# Altium integrated library Universal_Control_Measure_Board.IntLib: 99 symbols
Pins are listed as number, name and electrical type; pins without a type are passive.

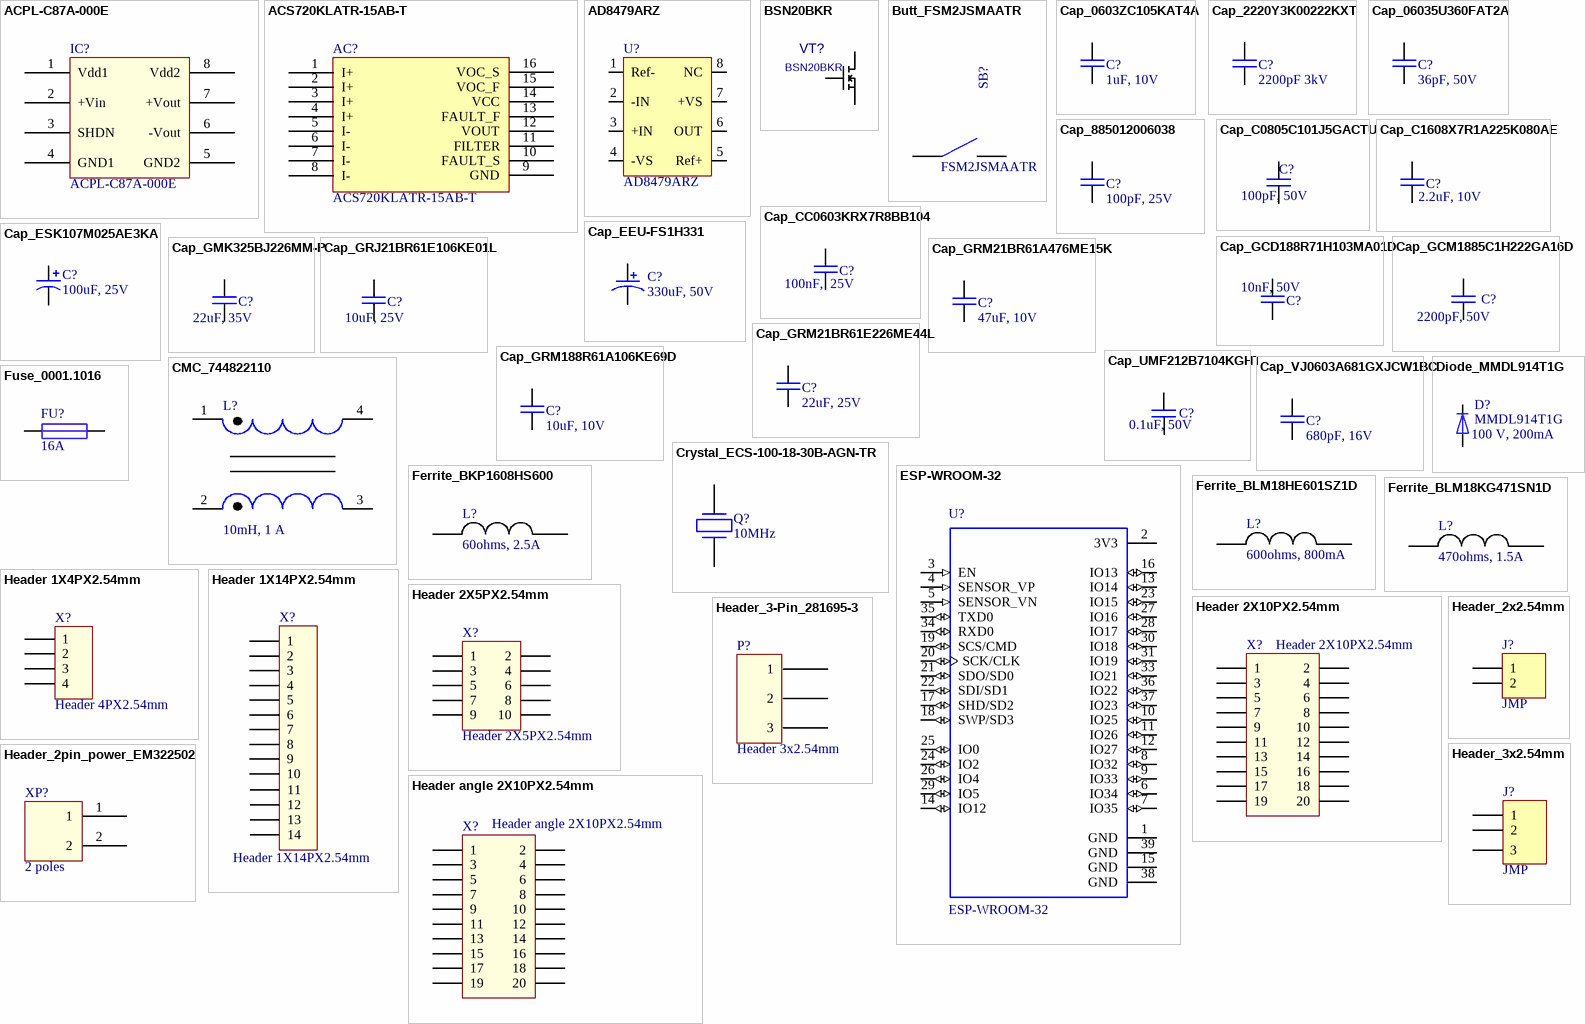
[diagram p0: symbols ACPL-C87A-000E to Header_3x2.54mm]

## ACPL-C87A-000E
designator IC?
3V-5.5V, Optically Isolated Amplifiers; Manufacturer: Broadcom / Avago; Order code: 630-ACPL-C87A-500E; Supplier: Mouser; Type: Optically Isolated Amplifiers; Value: 3V-5.5V; Package: SSO-8; Price: 4,64; PartNumber: ACPL-C87A-000E
footprint SOIC127P1150X350-8N (SOIC, 8-Leads, Body 6.3x7.0mm (max), Pitch 1.27mm, IPC Medium Density)
pins: 1 Vdd1, 2 +Vin, 3 SHDN, 4 GND1, 5 GND2, 6 -Vout, 7 +Vout, 8 Vdd2

## ACS720KLATR-15AB-T
designator AC?
15A, Current Sensor; Manufacturer: ALLEGRO MICROSYSTEMS; Order code: 3015173; Value: 15A; Supplier: Farnell; Type: Current Sensor; Price: 5,24; PartNumber: ACS720KLATR-15AB-T; Package: SOIC16
footprint SOIC_W
pins: 1 I+, 2 I+, 3 I+, 4 I+, 5 I-, 6 I-, 7 I-, 8 I-, 9 GND, 10 FAULT_S, 11 FILTER, 12 VOUT, 13 FAULT_F, 14 VCC, 15 VOC_F, 16 VOC_S

## AD8479ARZ
designator U?
80dB, Differential Amplifiers; Manufacturer: Analog Devices; Order code: 584-AD8479ARZ; Package: SOIC-8; PartNumber: AD8479ARZ; Price: 5,94; Supplier: Mouser; Type: Differential Amplifiers; Value: 80 dB
footprint SOIC127P600X175-8N
pins: 1 Ref-, 2 -IN, 3 +IN, 4 -VS, 5 Ref+, 6 OUT, 7 +VS, 8 NC

## BSN20BKR
designator VT?
60V, 265 mA, MOSFET; Manufacturer: Nexperia; Order code: 771-BSN20BKR; Value: 60V, 265 mA; datasheet: https://www1.elfa.se/data1/wwwroot/assets/datasheets/cd610530_e.pdf; Price: 0,297; Supplier: Mouser; Package: SOT-23; Publisher: *; Type: MOSFET; PartNumber: BSN20BKR
footprint SOT23
pins: 1 G, 2 S, 3 D

## Butt_FSM2JSMAATR
designator SB?, comment FSM2JSMAATR
12VDC, 50mA, Tactile Switch PUSH BUTTON; Manufacturer: TE Connectivity / Alcoswitch; Order code: 506-FSM2JSMAATR; Value: 12VDC, 50mA; Package: smd; Price: 0,25; Supplier: Mouser; Type: Tactile Switch PUSH BUTTON; PartNumber: FSM2JSMAATR
footprint FSM2JSMA (SMD Push Button)
pins: 1, 2

## Cap_0603ZC105KAT4A
designator C?, comment value 1uF, 10V  (hidden comment: 1uF, 10V,  10%)
1uF, 10V, X7R, 0603, 10%, MLCC; Manufacturer: AVX; PartNumber: 0603ZC105KAT4A; Order code: 581-0603ZC105KAT4A; Type: MLCC; Package: smd 0603; Price: 0,09; Supplier: Mouser
footprint smd_0603
pins: 1, 2

## Cap_2220Y3K00222KXT
designator C?, comment value 2200pF 3kV  (hidden comment: 2200pF, 3kV)
2200pF, 3kV, MLCC; Manufacturer: Knowles Syfer; PartNumber: 2220Y3K00222KXT; Order code: 843-2220Y3K00222KX; Supplier: Mouser; Package: smd 2220; Price: 3,74; Type: MLCC
footprint SMD_2220
pins: 1, 2

## Cap_06035U360FAT2A
designator C?, comment value 36pF, 50V  (hidden comment: 36pF, 50V,  1%)
36pF, 50V, 1%, 0603, Ultra Low ESR, MLCC; Manufacturer: AVX; PartNumber: 06035U360FAT2A; Order code: 581-06035U360FAT2A; Type: MLCC; Package: smd 0603; Price: 0,36; Supplier: Mouser
footprint smd_0603
pins: 1, 2

## Cap_885012006038
designator C?, comment value 100pF, 25V  (hidden comment: 100pF, 25V,  5%)
100pF, 25V,  5%, C0G, 0603, MLCC; Manufacturer: Wurth Electronics; PartNumber: 885012006038; Order code: 710-885012006038; Type: MLCC; Package: smd 0603; Price: 0,09; Supplier: Mouser
footprint smd_0603
pins: 1, 2

## Cap_C0805C101J5GACTU
designator C?, comment 100pF, 50V
100pF, 50V, MLCC; Manufacturer: KEMET; PartNumber: C0805C101J5GACTU; Order code: 80-C0805C101J5G; Supplier: Mouser; Price: 0,09; Type: MLCC; Package: smd 0805; value: 100pF, 50V
footprint SMD_0805
pins: 1, 2

## Cap_C1608X7R1A225K080AE
designator C?, comment value 2.2uF, 10V  (hidden comment: 2.2uF, 10V, 10%)
2.2uF, 10V, X7R, 10%, 0603, MLCC; Manufacturer: TDK; PartNumber: C1608X7R1A225K080AE; Order code: 810-C1608X7R1A225KAE; Type: MLCC; Package: smd 0603; Price: 0,23; Supplier: Mouser
footprint smd_0603
pins: 1, 2

## Cap_CC0603KRX7R8BB104
designator C?, comment value 100nF,  25V  (hidden comment: 100nF,  25V, 10%)
100nF, 25V, X7R, 10%, 0603, MLCC; Manufacturer: Yageo; PartNumber: CC0603KRX7R8BB104; Order code: 603-CC603KRX7R8BB104; Type: MLCC; Package: smd 0603; Price: 0,09; Supplier: Mouser
footprint smd_0603
pins: 1, 2

## Cap_EEU-FS1H331
designator C?, comment value 330uF, 50V  (hidden comment: 330uF, 50V, 20%)
330uF, 50V,  20%, D10, Aluminium Electrolytic Capacitors; Manufacturer: Panasonic; PartNumber: EEU-FS1H331; Order code: 667-EEU-FS1H331; Type: Aluminium Electrolytic Capacitors; Package: Radial D10 Thor; Price: 0,72; Supplier: Mouser
footprint D10Capacitor_Electrolyte
pins: 1, 2

## Cap_ESK107M025AE3KA
designator C?, comment 100uF, 25V
100uF, 25V, Aluminium Electrolytic Capacitors; Manufacturer: KEMET; PartNumber: ESK107M025AE3KA; Order code: 80-ESK107M025AE3KA; Type: Aluminium Electrolytic Capacitors; Price: 0,198; Package: Radial 6.3mm; Supplier: Mouser; Value: 100uF, 25V
footprint CapElectrolitic6.3x11
pins: 1, 2

## Cap_GCD188R71H103MA01D
designator C?, comment value 10nF, 50V  (hidden comment: 10nF, 50V,  20%)
10nF, 50V, X7R, 20%, 0603, MLCC; Manufacturer: Murata Electronics; PartNumber: GCD188R71H103MA01D; Order code: 81-GCD188R71H103MA1D; Type: MLCC; Package: smd 0603; Price: 0,09; Supplier: Mouser
footprint smd_0603
pins: 1, 2

## Cap_GCM1885C1H222GA16D
designator C?, comment value 2200pF, 50V  (hidden comment: 2200pF, 50V,  2%)
2200pF, 50V, C0G, 2%, 0603, MLCC; Manufacturer: Murata Electronics; PartNumber: GCM1885C1H222GA16D; Order code: 81-GCM1885C1H222GA6D; Type: MLCC; Package: smd 0603; Price: 0,17; Supplier: Mouser
footprint smd_0603
pins: 1, 2

## Cap_GMK325BJ226MM-P
designator C?, comment 22uF, 35V
22uF, 35V, MLCC; Manufacturer: Taiyo Yuden; PartNumber: GMK325BJ226MM-P; Order code: 963-GMK325BJ226MM-P; Supplier: Mouser; Price: 0,621; Type: MLCC; Package: smd 1210; value: 22uF, 35V
footprint smd 1210
pins: 1, 2

## Cap_GRJ21BR61E106KE01L
designator C?, comment value 10uF, 25V  (hidden comment: 10uF, 25V, 10%)
10uF,  25V, X5R, 10%, 0805, MLCC; Manufacturer: Murata; PartNumber: GRJ21BR61E106KE01L; Order code: 81-GRJ21BR61E106KE1L; Type: MLCC; Package: smd 0805; Price: 0,27; Supplier: Mouser
footprint SMD_0805
pins: 1, 2

## Cap_GRM21BR61A476ME15K
designator C?, comment value 47uF, 10V  (hidden comment: 10V,  20%)
47uF, X5R, 10V, 20%, 0805, MLCC; Manufacturer: Murata Electronics; PartNumber: GRM21BR61A476ME5K; Order code: 81-GRM21BR61A476ME5K; Type: MLCC; Package: smd 0805; Price: 0,62; Supplier: Mouser
footprint SMD_0805
pins: 1, 2

## Cap_GRM21BR61E226ME44L
designator C?, comment value 22uF, 25V  (hidden comment: 25V, 10%)
22uF, 25V, X5R, 20%, 0805, MLCC; Manufacturer: Murata Electronics; PartNumber: GRM21BR61E226ME4L; Order code: 81-GRM21BR61E226ME4L; Type: MLCC; Package: smd 0805; Price: 0,43; Supplier: Mouser
footprint SMD_0805
pins: 1, 2

## Cap_GRM188R61A106KE69D
designator C?, comment value 10uF, 10V  (hidden comment: 10uF, 10V,  10%)
10uF, 10V, X5R, 10%, 0603, MLCC; Manufacturer: Murata Electronics; PartNumber: GRM188R61A106KE69D; Order code: 81-GRM188R61A106KE9D; Type: MLCC; Package: smd 0603; Price: 0,23; Supplier: Mouser
footprint smd_0603
pins: 1, 2

## Cap_UMF212B7104KGHT
designator C?, comment 0.1uF, 50V
0.1uF, 50V, MLCC; Manufacturer: Taiyo Yuden; PartNumber: UMF212B7104KGHT; Order code: 963-UMF212B7104KGHT; Supplier: Mouser; Price: 0,198; Type: MLCC; Package: smd 0805; value: 0.1uF, 50V
footprint C_0805
pins: 1, 2

## Cap_VJ0603A681GXJCW1BC
designator C?, comment value 680pF, 16V  (hidden comment: 680pF, 16V,  2%)
680pF, 16V, C0G, 2%, 0603, MLCC; Manufacturer: Vishay / Vitramon; PartNumber: VJ0603A681GXJCW1BC; Order code: 77-VJ0603A681GXJCBC; Type: MLCC; Package: smd 0603; Price: 0,09; Supplier: Mouser
footprint smd_0603
pins: 1, 2

## CMC_744822110
designator L?, comment 10mH, 1 A
10mH, 1 A, Common Mode Chokes/Filters; Manufacturer: Wurth Elektronik; PartNumber: 744822110; Order code: 710-744822110; Type: Common Mode Chokes / Filters; Supplier: Mouser; Package: Tray, Trough hole; Price: 4,54; Value: 10mH, 1 A
footprint Common_mode
pins: 1, 2, 3, 4

## Crystal_ECS-100-18-30B-AGN-TR
designator Q?, comment value 10MHz  (hidden comment: 10MHz, 25ppm)
10MHz, 25ppm, 18pF, Crystals; Manufacturer: ECS; PartNumber: ECS-100-18-30B-AGN-TR; Order code: 520-100-18-30B-AGNT; Type: Crystals; Price: 0,493; Package: smd 5mmx3.2mm; Supplier: Mouser
footprint SMD CRYSTAL ECX-53B (SMD 5x3.2mm)
pins: 1, 2 hidden to GNDOSC, 3, 4 hidden to GNDOSC

## Diode_MMDL914T1G
designator D?, comment MMDL914T1G  value 100 V, 200mA
100 V, 200mA, Diodes; Manufacturer: ON Semiconductor; Order code: 863-MMDL914T1G; Type: Diodes; Supplier: Mouser; Package: SOD-323; Price: 0,099; PartNumber: MMDL914T1G
footprint SOD323F
pins: 1, 2

## ESP-WROOM-32
designator U?
2.4 GHz to 2.5 GHz, WiFi Modules; Manufacturer: Espressif Systems; PartNumber: ESP32-WROOM-32; Order code: 356-ESP-WROOM-32; PIN_COUNT: 39; SnapEDA_Link: https://www.snapeda.com/parts/ESP-WROOM-32/Olimex%20LTD/view-part/?ref=snap; Price: 3,23; Value: 2.4 GHz to 2.5 GHz; Supplier: Mouser; Type: WiFi Modules; Package: 18x25.5x3.1mm
footprint MODULE_ESP-WROOM-32_ESP-WROOM-32(Primary)
pins: 1 GND (power), 2 3V3 (power), 3 EN (in), 4 SENSOR_VP (in), 5 SENSOR_VN (in), 6 IO34 (io), 7 IO35 (io), 8 IO32 (io), 9 IO33 (io), 10 IO25 (io), 11 IO26 (io), 12 IO27 (io), 13 IO14 (io), 14 IO12 (io), 15 GND (power), 16 IO13 (io), 17 SHD/SD2 (io), 18 SWP/SD3 (io), 19 SCS/CMD (io), 20 SCK/CLK (io), 21 SDO/SD0 (io), 22 SDI/SD1 (io), 23 IO15 (io), 24 IO2 (io), 25 IO0 (io), 26 IO4 (io), 27 IO16 (io), 28 IO17 (io), 29 IO5 (io), 30 IO18 (io), 31 IO19 (io), 33 IO21 (io), 34 RXD0 (io), 35 TXD0 (io), 36 IO22 (io), 37 IO23 (io), 38 GND (power), 39 GND (power)

## Ferrite_BKP1608HS600
designator L?, comment 60ohms, 2.5A
60ohms, 2.5A, 0603, Ferrite Beads; Manufacturer: Taiyo Yuden; PartNumber: BKP1608HS600; Order code: 963-BKP1608HS600-T; Supplier: Mouser; Price: 0,09; Package: smd 0603; Type: Ferrite Beads; value: 60ohms, 2.5A
footprint smd_0603
pins: 1, 2

## Ferrite_BLM18HE601SZ1D
designator L?, comment 600ohms, 800mA
600ohms, 800mA, 0603, Ferrite Beads; Manufacturer: Murata Electronics; PartNumber: BLM18HE601SZ1D; Order code: 81-BLM18HE601SZ1D; Supplier: Mouser; Price: 0,15; Package: smd 0603; Type: Ferrite Beads; value: 600ohms, 800mA
footprint smd_0603
pins: 1, 2

## Ferrite_BLM18KG471SN1D
designator L?, comment 470ohms, 1.5A
470ohms, 1.5A, 0603, Ferrite Beads; Manufacturer: Murata Electronics; PartNumber: BLM18KG471SN1D; Order code: 81-BLM18KG471SN1D; Supplier: Mouser; Price: 0,09; Package: smd 0603; Type: Ferrite Beads; value: 470ohms, 1.5A
footprint smd_0603
pins: 1, 2

## Fuse_0001.1016
designator FU?, comment value 16A  (hidden comment: 0001.1016)
15A, Cartridge Fuses; Manufacturer: Schurter; Type: Cartridge Fuses; Price: 0,477; Order code: 0001.1016; Supplier: Mouser; Package: Fuse 5x20mm; PartNumber: 0001.1016
footprint Fuse5x20mm
pins: 1, 2

## Header 1X4PX2.54mm
designator X?, comment Header 4PX2.54mm
1x4x2.54mm, Seeed Studio Accessories; PartNumber: 110990030; Order code: 713-110990030; Value: 2.54mm; Package: 1x4x2.54mm; Price: 1,35; Publisher: *; Supplier: Mouser; Manufacturer: Seeed Studio; Type: Seeed Studio Accessories
footprint Header 1X4PX2.54mm
pins: 1, 2, 3, 4

## Header 1X14PX2.54mm
designator X?
1x14x2.54mm, Headers & Wire Housings; Manufacturer: Harwin; PartNumber: M20-7821446; Order code: 855-M20-7821446; Value: 2.54mm; Package: 1x14x2.54mm; Price: 1,3; Publisher: *; Supplier: Mouser; Type: Headers & Wire Housings
footprint Header 1X14PX2.54mm
pins: 1, 2, 3, 4, 5, 6, 7, 8, 9, 10, 11, 12, 13, 14

## Header 2X5PX2.54mm
designator X?
2x5x2.54mm, Shrouded; Manufacturer: Amphenol FCI; PartNumber: 52601-S10-6LF; Order code: 649-52601-S10-6LF; Package: 2x5x2.54mm; Price: 1,06; Publisher: *; Supplier: Mouser; Type: Shrouded; Value: 2x5x2.54mm
footprint Header 2X5PX2.54mm
pins: 1, 2, 3, 4, 5, 6, 7, 8, 9, 10

## Header 2X10PX2.54mm
designator X?
2x10x2.54mm, Shrouded; Manufacturer: Amphenol FCI; PartNumber: 52601-S20-6LF; Order code: 649-52601-S20-6LF; Package: 2x10x2.54mm; Price: 1,68; Publisher: *; Supplier: Mouser; Type: Shrouded; Value: 2x10x2.54mm
footprint Header 2X10PX2.54mm
pins: 1, 2, 3, 4, 5, 6, 7, 8, 9, 10, 11, 12, 13, 14, 15, 16, 17, 18, 19, 20

## Header angle 2X10PX2.54mm
designator X?
2x10x2.54mm, Shrouded; Manufacturer: FCI; PartNumber: 78207-220HLF; Order code: 649-78207-220HLF; Package: 2x10x2.54mm; Price: 1,32; Publisher: *; Supplier: Mouser; Type: Shrouded; Value: 2x10x2.54mm
footprint Header 2X10PX2.54mm
pins: 1, 2, 3, 4, 5, 6, 7, 8, 9, 10, 11, 12, 13, 14, 15, 16, 17, 18, 19, 20

## Header_2pin_power_EM322502
designator XP?, comment 2 poles
2 poles, 16A, 300V, Fixed Terminal Blocks; Manufacturer: Bussmann / Eaton; PartNumber: EM322502; Order code: 504-EM322502; Type: Fixed Terminal Blocks; Value: 2 poles, 16A, 300V; Supplier: Mouser; Package: 7.5 mm; Price: 0,531
footprint 2_HOLES_7.5
pins: 1, 2

## Header_2x2.54mm
designator J?, comment JMP
2x2.54mm, Headers & Wire Housings; Manufacturer: Molex; Order code: 538-22-28-4022; Price: 0,09; Supplier: Mouser; Type: Headers & Wire Housings; Value: 2x2.54mm; PartNumber: 22-28-4022; Package: 2x2.54mm
footprint HDR1X2 (2.54mm)
pins: 1, 2

## Header_3-Pin_281695-3
designator P?, comment Header 3x2.54mm
3x2.54mm, Headers & Wire Housings; Manufacturer: TE Connectivity / AMP; PartNumber: 281695-3; Order code: 571-281695-3; Type: Headers & Wire Housings; Value: 3x2.54mm; Package: 3x2.54mm; Supplier: Mouser; Price: 0,52
footprint 3_HOLES
pins: 1, 2, 3

## Header_3x2.54mm
designator J?, comment JMP
3x2.54mm, Headers & Wire Housings; Manufacturer: Molex; PartNumber: 42375-1856; Order code: 538-42375-1856; Price: 0,144; Supplier: Mouser; Type: Headers & Wire Housings; Value: 3x2.54mm; Package: 3x2.54mm
footprint HDR1X3 (2.54mm)
pins: 1, 2, 3

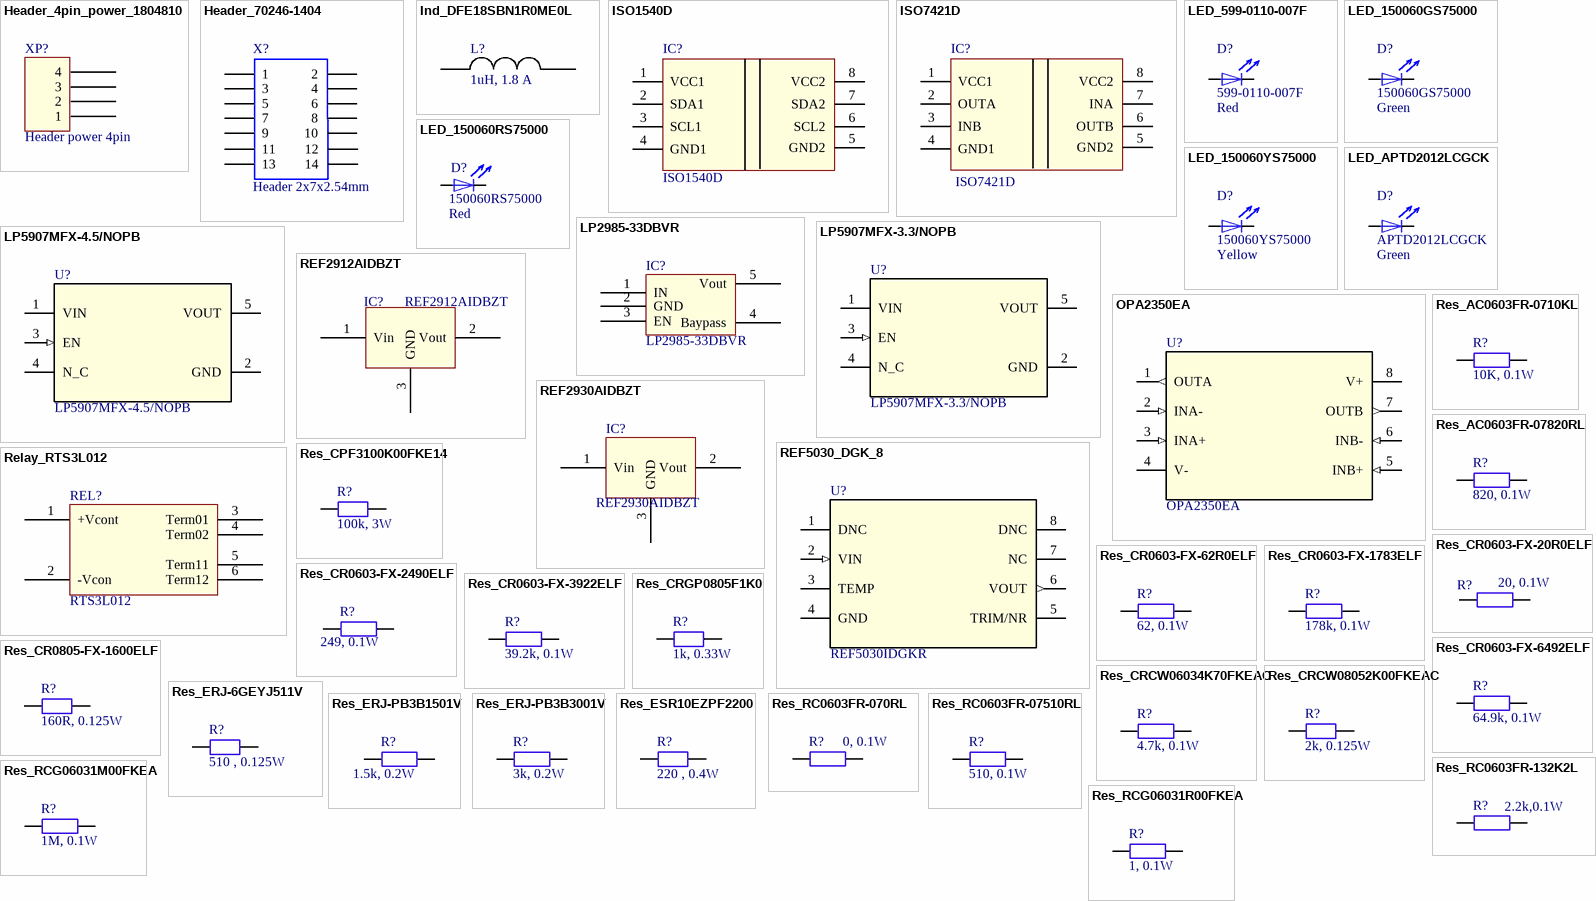
[diagram p1: symbols Header_4pin_power_1804810 to Res_RCG06031R00FKEA]

## Header_4pin_power_1804810
designator XP?, comment Header power 4pin
20 A, 400V, Pluggable Terminal Blocks; Manufacturer: Phoenix Contact; PartNumber: 1804810; Order code: 651-1804810; Type: Pluggable Terminal Blocks; Value: 20 A, 400V; Price: 6,16; Package: 4-ST-7,62; Supplier: Mouser
footprint PC 4/ 2-G-7,62 (2pin pistik plaadile)
pins: 1, 2, 3, 4

## Header_70246-1404
designator X?, comment Header 2x7x2.54mm
2x7x2.54mm, Headers & Wire Housings; Manufacturer: Molex; PartNumber: 70246-1404; Geometry.Height: 9.27mm; Order code: 538-70246-1404; PIN_COUNT: 14; Datasheet Link: https://componentsearchengine.com/Datasheets/1/70246-1001.pdf; Price: 1,45; Supplier: Mouser; Type: Headers & Wire Housings; Value: 2x7x2.54mm; Package: 2x7x2.54mm
footprint Header 2X7PX2.54mm
pins: 1, 2, 3, 4, 5, 6, 7, 8, 9, 10, 11, 12, 13, 14

## Ind_DFE18SBN1R0ME0L
designator L?, comment value 1uH, 1.8 A  (hidden comment: 1,8A)
1uH, 1.8 A, Fixed Inductors; PartNumber: DFE18SBN1R0ME0L; Manufacturer: Murata Electronics; Order code: 81-DFE18SBN1R0ME0L; Supplier: Mouser; Price: 0,09; Package: smd 0603; Type: Fixed Inductors
footprint smd_0603
pins: 1, 2

## ISO1540D
designator IC?
ISO1540D, Digital Isolators; Manufacturer: Texas Instruments; Order code: 595-ISO1540D; Value: 4 kV; Price: 5,03; Package: SOIC-8; Supplier: Mouser; Type: Digital Isolators; PartNumber: ISO1540D
footprint SOIC8 (SOIC, 8-Leads, Body 4,91x3,90mm, Pitch 1,27mm, IPC Medium Density)
pins: 1 VCC1, 2 SDA1, 3 SCL1, 4 GND1, 5 GND2, 6 SCL2, 7 SDA2, 8 VCC2

## ISO7421D
designator IC?
ISO7421Dб Digital Isolators; Manufacturer: Texas Instruments; Order code: 595-ISO7421D; Value: 2,5kV; Price: 2,40; Package: SOIC-8; Supplier: Mouser; Type: Digital Isolators; PartNumber: ISO7421D
footprint SOIC8 (SOIC, 8-Leads, Body 4,91x3,90mm, Pitch 1,27mm, IPC Medium Density)
pins: 1 VCC1, 2 OUTA, 3 INB, 4 GND1, 5 GND2, 6 OUTB, 7 INA, 8 VCC2

## LED_599-0110-007F
designator D?, comment 599-0110-007F  value Red
Red LED, 0805; Manufacturer: Dialight; order code: 645-599-0110-007F; Type: Standard LEDs - SMD; Price: 0,342; Supplier: Mouser; PartNumber: 599-0110-007F; Package: smd 0805
footprint LED_SMD_0805
pins: 1, 2

## LED_150060GS75000
designator D?, comment 150060GS75000  value Green
Green LED, 0603; Manufacturer: Wurth Electronics; Type: Standard LEDs; Order code: 710-150060GS75000; Package: smd 0603; Price: 0,13; Supplier: Mouser; PartNumber: 150060GS75000
footprint smd_0603 (LED)
pins: A 2, K

## LED_150060RS75000
designator D?, comment 150060RS75000  value Red
Red LED, 0603; Manufacturer: Wurth Electronics; Type: Standard LEDs; Order code: 710-150060RS75000; Package: smd 0603; Price: 0,13; Supplier: Mouser; PartNumber: 150060RS75000
footprint smd_0603 (LED)
pins: A 2, K

## LED_150060YS75000
designator D?, comment 150060YS75000  value Yellow
Yellow LED, 0603; Manufacturer: Wurth Electronics; Type: Standard LEDs; Order code: 710-150060YS75000; Package: smd 0603; Price: 0,13; Supplier: Mouser; PartNumber: 150060YS75000
footprint smd_0603 (LED)
pins: A 2, K

## LED_APTD2012LCGCK
designator D?, comment APTD2012LCGCK  value Green
Green LED, 0805; Manufacturer: Kingbright; order code: 604-APTD2012LCGCK; Type: Standard LEDs - SMD; Price: 0,378; Supplier: Mouser; PartNumber: APTD2012LCGCK; Package: smd 0805
footprint LED_SMD_0805
pins: 1, 2

## LP2985-33DBVR
designator IC?
3.3V, 150mA, LDO Voltage Regulators; Manufacturer: Texas Instruments; Order code: 595-LP2985-33DBVR; Value: 3.3V, 150mA; Supplier: Mouser; Package: SOT-23-5; Price: 0,522; PartNumber: LP2985-33DBVR; Type: LDO Voltage Regulators
footprint SOT23_5
pins: 1 IN, 2 GND, 3 EN, 4 Baypass, 5 Vout

## LP5907MFX-3.3/NOPB
designator U?
3.3V, 250mA, Ultra-Lo Noise LDO Reg; Manufacturer: Texas Instruments; Order code: 595-LP5907MFX-3.3NPB; PartNumber: LP5907MFX-3.3/NOPB; Type: LDO Voltage Regulators; Value: 3.3V; Supplier: Mouser; Price: 0,46; Package: SOT-23-5
footprint SOT23-5(DBV0005A)_N
pins: 1 VIN (power), 2 GND (power), 3 EN (in), 4 N_C, 5 VOUT (power)

## LP5907MFX-4.5/NOPB
designator U?
4.5V, 250mA, Ultra-Lo Noise LDO Reg; Manufacturer: Texas Instruments; Order code: 595-LP5907MFX-4.5NPB; PartNumber: LP5907MFX-4.5/NOPB; Type: LDO Voltage Regulators; Value: 4.5V; Supplier: Mouser; Price: 0,46; Package: SOT23-5
footprint SOT23-5(DBV0005A)_N
pins: 1 VIN (power), 2 GND (power), 3 EN (in), 4 N_C, 5 VOUT (power)

## OPA2350EA
designator U?
122dB,  38 MHz, High Speed Operational Amplifiers; Manufacturer: Texas Instruments; INDUSTRY_STD_PKG_TYPE: MSOP; PIN_COUNT: 8; PACKAGE_DESIGNATOR: DGK; Order code: 595-OPA2350EA/2K5; Datasheet_URL: http://www.ti.com/lit/gpn/OPA2350; PartNumber: OPA2350EA; Value: 122dB,  38 MHz; Type: High Speed Operational Amplifiers; Supplier: Mouser; Price: 3,77
footprint DGK8
pins: 1 OUTA (out), 2 INA- (in), 3 INA+ (in), 4 V- (power), 5 INB+ (in), 6 INB- (in), 7 OUTB (out), 8 V+ (power)

## REF2912AIDBZT
designator IC?
1.25V, 25 mA, Voltage References; Manufacturer: Texas Instruments; Order code: 595-REF2912AIDBZT; Value: 1.25V, 25 mA; Supplier: Mouser; PartNumber: REF2912AIDBZT; Price: 1,05; Package: SOT-23-3; Type: Voltage References
footprint SOT23
pins: 1 Vin, 2 Vout, 3 GND

## REF2930AIDBZT
designator IC?
3V, 25mA, Voltage References; Manufacturer: Texas Instruments; Order code: 595-REF2930AIDBZT; Value: 3V, 25mA; Supplier: Mouser; Price: 1,05; Package: SOT-23-3; PartNumber: REF2930AIDBZT; Type: Voltage References
footprint SOT23
pins: 1 Vin, 2 Vout, 3 GND

## REF5030_DGK_8
designator U?, comment REF5030IDGKR
3V, Voltage References; Manufacturer: Texas Instruments; INDUSTRY_STD_PKG_TYPE: MSOP; FAMILY_NAME: SERIES VOLTAGE REFERENCE; PIN_COUNT: 8; PACKAGE_DESIGNATOR: DGK; Order code: 595-REF5030IDGKR; Datasheet_URL: http://www.ti.com/lit/gpn/REF5030; Value: 3V; Type: Voltage References; Supplier: Mouser; PartNumber: REF5030IDGKR; Price: 5,25; Package: VSSOP-8
footprint DGK8
pins: 1 DNC, 2 VIN (in), 3 TEMP, 4 GND, 5 TRIM/NR, 6 VOUT (out), 7 NC, 8 DNC

## Relay_RTS3L012
designator REL?, comment RTS3L012
240VAC, 16A, General Purpose Relays; Manufacturer: TE CONNECTIVITY; Order code: 655-RTS3L012; Price: 4,84; Supplier: Farnell; Type: General Purpose Relays; Value: 240VAC, 16A; Package: S0163-BF; PartNumber: RTS3L012
footprint Relay12V
pins: 1 +Vcont, 2 -Vcon, 3 Term01, 4 Term02, 5 Term11, 6 Term12

## Res_AC0603FR-0710KL
designator R?, comment value 10K, 0.1W  (hidden comment: 10k, 75V, 0.1W,  1%)
10k, 75V, 0.1W, 1%, 0603, Thick Film Resistors; Manufacturer: Yageo; PartNumber: AC0603FR-0710KL; Order code: 603-AC0603FR-0710KL; Type: Thick Film Resistors; Price: 0,085; Package: smd 0603; Supplier: Mouser
footprint smd_0603
pins: 1, 2

## Res_AC0603FR-07820RL
designator R?, comment value 820, 0.1W  (hidden comment: 820, 75V, 0.1W,  1%,)
820, 75V, 0.1W,  1%, 100 ppm/C, 0603, Thick Film Resistors; Manufacturer: Yageo; PartNumber: AC0603FR-07820RL; Order code: 603-AC0603FR-07820RL; Type: Thick Film Resistors; Price: 0,085; Package: smd 0603; Supplier: Mouser
footprint smd_0603
pins: 1, 2

## Res_CPF3100K00FKE14
designator R?, comment value 100k, 3W  (hidden comment: 100k, 3W, 1%)
100k, 3W, 1%, Metal Film Resistors; Manufacturer: Vishay; Order code: 71-CPF3100K00FKE14; Type: Metal Film Resistors; Price: 0,936; Package: Through hole; Supplier: Mouser
footprint Through_hole
pins: 1, 2

## Res_CR0603-FX-20R0ELF
designator R?, comment value 20, 0.1W  (hidden comment: 20, 50V, 0.1W, 1%,)
20, 50V, 0.1W, 1%, 100 PPM/C, 0603, Thick Film Resistors; Manufacturer: Bourns; PartNumber: CR0603-FX-20R0ELF; Order code: 652-CR0603FX-20R0ELF; Type: Thick Film Resistors; Price: 0,09; Package: smd 0603; Supplier: Mouser
footprint smd_0603
pins: 1, 2

## Res_CR0603-FX-62R0ELF
designator R?, comment value 62, 0.1W  (hidden comment: 62, 50V, 0.1W, 1%)
62, 50V, 0.1W, 1%, 100 PPM/C, 0603, Thick Film Resistors; Manufacturer: Bourns; PartNumber: CR0603-FX-62R0ELF; Order code: 652-CR0603FX-62R0ELF; Type: Thick Film Resistors; Price: 0,09; Package: smd 0603; Supplier: Mouser
footprint smd_0603
pins: 1, 2

## Res_CR0603-FX-1783ELF
designator R?, comment value 178k, 0.1W  (hidden comment: 178k, 75V, 0.1W,  1%)
178k, 75V, 0.1W,  1%, 0603, Thick Film Resistors; Manufacturer: Bourns; PartNumber: CR0603-FX-1783ELF; Order code: 652-CR0603FX-1783ELF; Type: Thick Film Resistors; Price: 0,09; Package: smd 0603; Supplier: Mouser
footprint smd_0603
pins: 1, 2

## Res_CR0603-FX-2490ELF
designator R?, comment value 249, 0.1W  (hidden comment: 249, 50 V, 0.1W, 1%)
249, 50 V, 0.1W, 1%, 100 PPM/C, 0603, Thick Film Resistors; Manufacturer: Bourns; PartNumber: CR0603-FX-2490ELF; Order code: 652-CR0603FX-2490ELF; Type: Thick Film Resistors; Price: 0,09; Package: smd 0603; Supplier: Mouser
footprint smd_0603
pins: 1, 2

## Res_CR0603-FX-3922ELF
designator R?, comment value 39.2k, 0.1W  (hidden comment: 39.2k, 50V, 0.1W, 1%)
39.2k, 50V, 0.1W, 1%, 100ppm, 0603, Thick Film Resistors; Manufacturer: Bourns; PartNumber: CR0603-FX-3922ELF; Order code: 652-CR0603FX-3922ELF; Type: Thick Film Resistors; Price: 0,09; Package: smd 0603; Supplier: Mouser
footprint smd_0603
pins: 1, 2

## Res_CR0603-FX-6492ELF
designator R?, comment value 64.9k, 0.1W  (hidden comment: 64.9k, 50V, 0.1W, 1%)
64.9k, 50V, 0.1W, 1%, 100ppm, 0603, Thick Film Resistors; Manufacturer: Bourns; PartNumber: CR0603-FX-6492ELF; Order code: 652-CR0603FX-6492ELF; Type: Thick Film Resistors; Price: 0,085; Package: smd 0603; Supplier: Mouser
footprint smd_0603
pins: 1, 2

## Res_CR0805-FX-1600ELF
designator R?, comment value 160R, 0.125W  (hidden comment: 160R, 0.125W, 1%)
160R, 0.125W, 1%, 0805, Thick Film Resistors; Manufacturer: Bourns; PartNumber: CR0805-FX-1600ELF; Order code: 652-CR0805FX-1600ELF; Type: Thick Film Resistors - SMD; Price: 0,09; Package: smd 0805; Supplier: Mouser
footprint SMD_0805
pins: 1, 2

## Res_CRCW06034K70FKEAC
designator R?, comment value 4.7k, 0.1W  (hidden comment: 4.7k, 75V, 0.1W, 1%)
4.7k, 75V, 0.1W, 1%, 0603, Thick Film Resistors; Manufacturer: Vishay / Dale; Order code: CRCW06034K70FKEAC; Type: Thick Film Resistors; Price: 0,153; Package: smd 0603; Supplier: Mouser; PartNumber: CRCW06034K70FKEAC
footprint smd_0603
pins: 1, 2

## Res_CRCW08052K00FKEAC
designator R?, comment value 2k, 0.125W  (hidden comment: 2k, 0.125W, 1%)
2k, 0.125W, 1%, 0805, Thick Film Resistors; Manufacturer: Vishay; PartNumber: CRCW08052K00FKEAC; Order code: 71-CRCW08052K00FKEAC; Price: 0,097; Supplier: Mouser; datasheet: https://www1.elfa.se/data1/wwwroot/assets/datasheets/06016752.pdf; Type: Thick Film Resistors; Package: smd 0805
footprint SMD_0805
pins: 1, 2

## Res_CRGP0805F1K0
designator R?, comment value 1k, 0.33W  (hidden comment: 1k, 0.33W, 1%)
1k, 0.33W, 1%, 0805, Thick Film Resistors; Manufacturer: TE Connectivity / Holsworthy; PartNumber: CRGP0805F1K0; Order code: 279-CRGP0805F1K0; Price: 0,097; Supplier: Mouser; datasheet: https://www1.elfa.se/data1/wwwroot/assets/datasheets/06016752.pdf; Type: Thick Film Resistors - SMD; Package: smd 0805
footprint SMD_0805
pins: 1, 2

## Res_ERJ-6GEYJ511V
designator R?, comment value 510 , 0.125W  (hidden comment: 510 , 0.125W, 5%)
510 , 0.125W, 5%, 0805, Thick Film Resistors; Manufacturer: Panasonic; PartNumber: ERJ-6GEYJ511V; Order code: 667-ERJ-6GEYJ511V; Type: Thick Film Resistors - SMD; Price: 0,09; Package: smd 0805; Supplier: Mouser
footprint SMD_0805
pins: 1, 2

## Res_ERJ-PB3B1501V
designator R?, comment value 1.5k, 0.2W  (hidden comment: 1.5k, 150V, 0.2W,  0.1%)
1.5k, 150V, 0.2W,  0.1%, 50ppm, 0603, Thick Film Resistors; Manufacturer: Panasonic; PartNumber: ERJ-PB3B1501V; Order code: 667-ERJ-PB3B1501V; Type: Thick Film Resistors; Price: 0,20; Package: smd 0603; Supplier: Mouser
footprint smd_0603
pins: 1, 2

## Res_ERJ-PB3B3001V
designator R?, comment value 3k, 0.2W  (hidden comment: 3k, 150V, 0.2W,  0.1%)
3k, 150V, 0.2W,  0.1%, 50ppm, 0603, Thick Film Resistors; Manufacturer: Panasonic; PartNumber: ERJ-PB3B3001V; Order code: 667-ERJ-PB3B3001V; Type: Thick Film Resistors; Price: 0,20; Package: smd 0603; Supplier: Mouser
footprint smd_0603
pins: 1, 2

## Res_ESR10EZPF2200
designator R?, comment value 220 , 0.4W  (hidden comment: 220 , 0.4W, 1%)
220 , 0.4W, 1%, 0805, Thick Film Resistors; Manufacturer: ROHM Semiconductor; PartNumber: ESR10EZPF2200; Order code: 755-ESR10EZPF2200; Type: Thick Film Resistors - SMD; Price: 0,144; Package: smd 0805; Supplier: Mouser
footprint SMD_0805
pins: 1, 2

## Res_RC0603FR-070RL
designator R?, comment value 0, 0.1W  (hidden comment: 0, 75V, 0.1W,  1%)
0, 75V, 0.1W,  1%, 0603, Thick Film Resistors; Manufacturer: Yageo; PartNumber: RC0603FR-070RL; Order code: 603-RC0603FR-070RL; Type: Thick Film Resistors; Price: 0,085; Package: smd 0603; Supplier: Mouser
footprint smd_0603
pins: 1, 2

## Res_RC0603FR-132K2L
designator R?, comment value 2.2k,0.1W  (hidden comment: 2.2k, 75V, 0.1W, 1%)
2.2k, 75V, 0.1W, 1%, 0603, Thick Film Resistors; Manufacturer: Yageo; PartNumber: RC0603FR-132K2L; Order code: 603-RC0603FR-132K2L; Type: Thick Film Resistors; Price: 0,085; Package: smd 0603; Supplier: Mouser
footprint smd_0603
pins: 1, 2

## Res_RC0603FR-07510RL
designator R?, comment value 510, 0.1W  (hidden comment: 510, 75V, 0.1W, 1%)
510, 75V, 0.1W, 1%, 100 ppm/C, 0603, Thick Film Resistors; Manufacturer: Yageo; PartNumber: RC0603FR-07510RL; Order code: 603-RC0603FR-07510RL; Type: Thick Film Resistors; Price: 0,085; Package: smd 0603; Supplier: Mouser
footprint smd_0603
pins: 1, 2

## Res_RCG06031M00FKEA
designator R?, comment value 1M, 0.1W  (hidden comment: 1M, 75V, 0.1W, 1%,)
1M, 75V, 0.1W, 1%, 100ppm, 0603, Thick Film Resistors; Manufacturer: Vishay / Draloric; PartNumber: RCG06031M00FKEA; Order code: 71-RCG06031M00FKEA; Type: Thick Film Resistors; Price: 0,085; Package: smd 0603; Supplier: Mouser
footprint smd_0603
pins: 1, 2

## Res_RCG06031R00FKEA
designator R?, comment value 1, 0.1W  (hidden comment: 1, 75V, 0.1W, 1%)
1, 75V, 0.1W, 1%, 100ppm, 0603, Thick Film Resistors; Manufacturer: Vishay / Draloric; PartNumber: RCG06031R00FKEA; Order code: 71-RCG06031R00FKEA; Type: Thick Film Resistors; Price: 0,085; Package: smd 0603; Supplier: Mouser
footprint smd_0603
pins: 1, 2

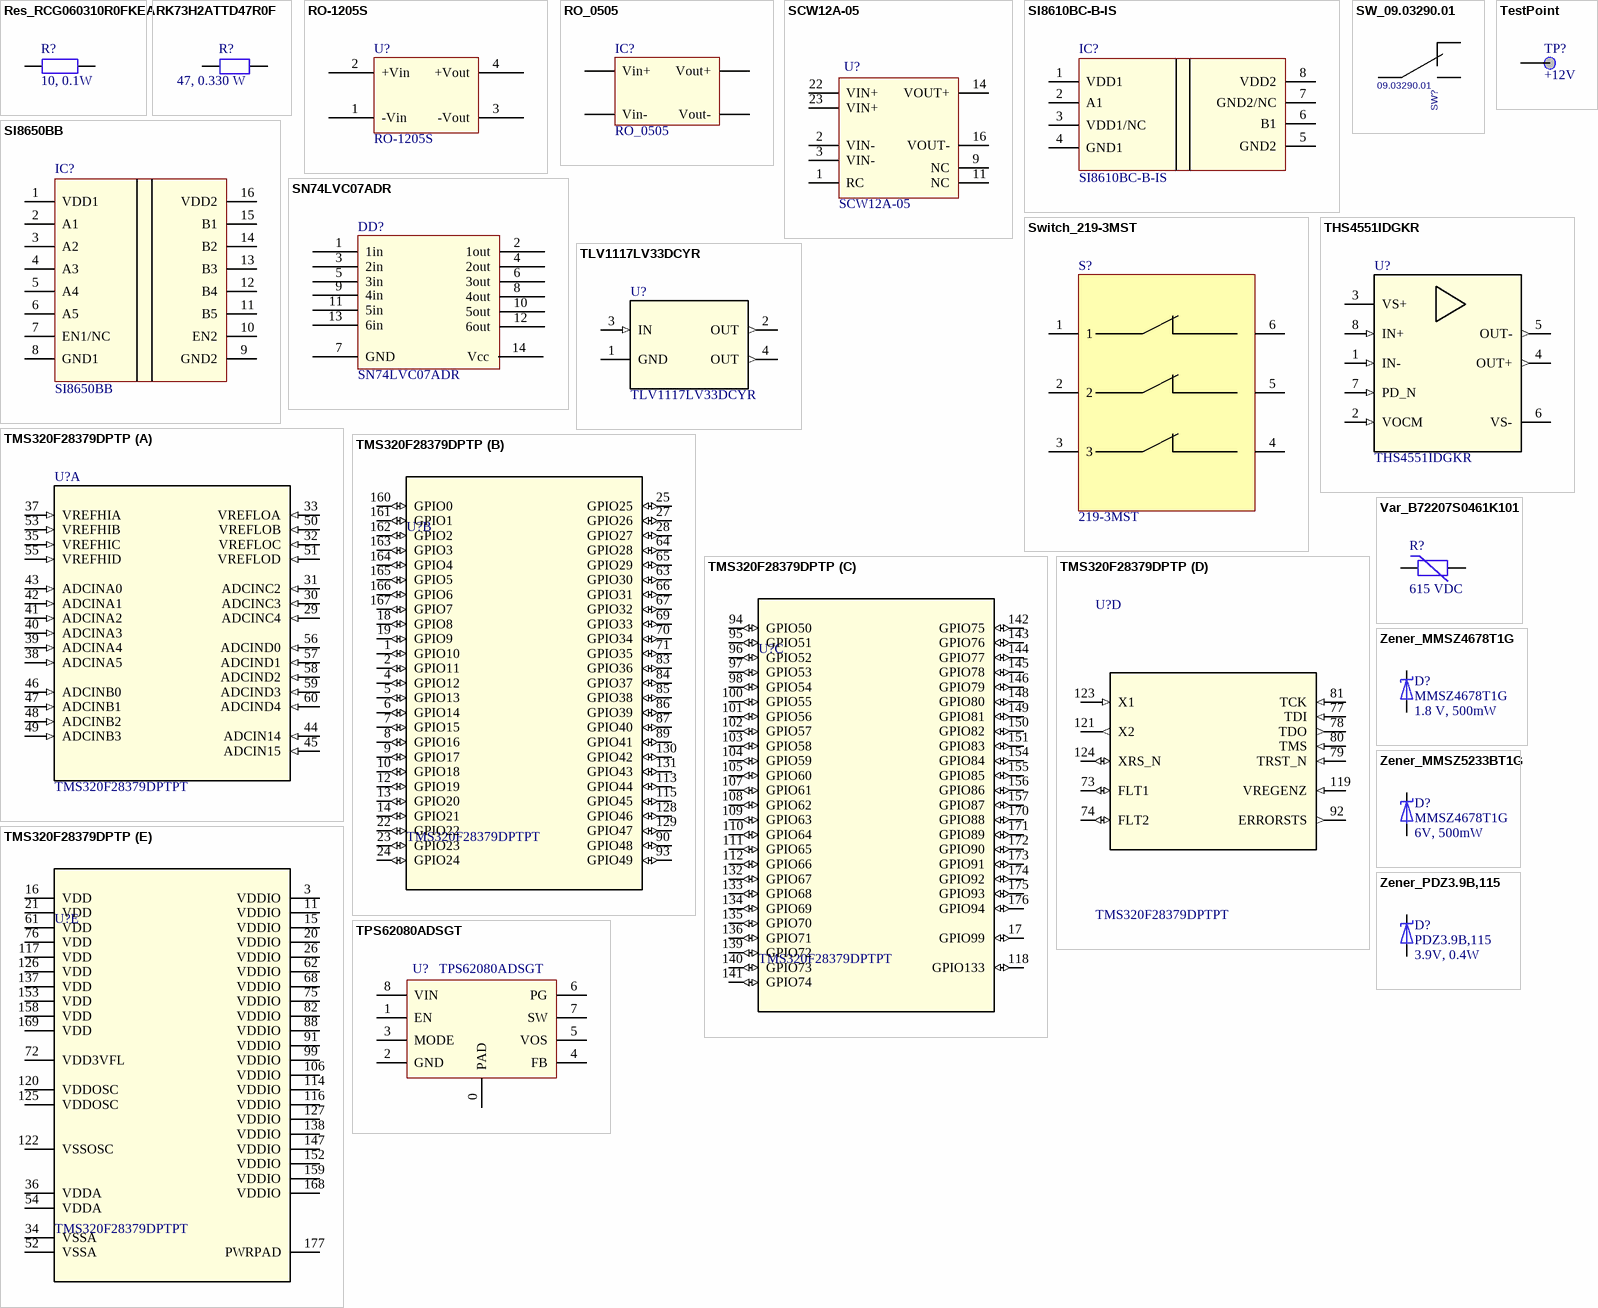
[diagram p2: symbols Res_RCG060310R0FKEA to Zener_PDZ3.9B,115]

## Res_RCG060310R0FKEA
designator R?, comment value 10, 0.1W  (hidden comment: 10, 75V, 0.1W, 1%)
10, 75V, 0.1W, 1%, 0603, Thick Film Resistors; Manufacturer: Vishay / Draloric; PartNumber: RCG060310R0FKEA; Order code: 71-RCG060310R0FKEA; Type: Thick Film Resistors; Price: 0,085; Package: smd 0603; Supplier: Mouser
footprint smd_0603
pins: 1, 2

## RK73H2ATTD47R0F
designator R?, comment 47, 0.330 W
47, 0.330 W, 0805, Thick Film Resistors; Manufacturer: TE Connectivity / Holsworthy; PartNumber: RK73H2ATTD47R0F; Order code: 279-CRGH0805F47R; Price: 0,09; Supplier: Mouser; datasheet: https://www1.elfa.se/data1/wwwroot/assets/datasheets/06016752.pdf; Type: Thick Film Resistors - SMD; Package: smd 0805; Value: 47, 0.330 W
footprint SMD_0805
pins: 1, 2

## RO-1205S
designator U?
RO-1205S, Isolated DC/DC Converters; Manufacturer: RECOM; Order code: 919-RO-1205S; Value: 12V-5V; Supplier: Mouser; Type: Isolated DC/DC Converters; Price: 4,84; PartNumber: RO-1205S; Package: SIP-4
footprint SIP4
pins: 1 -Vin, 2 +Vin, 3 -Vout, 4 +Vout

## RO_0505
designator IC?
RO_0505, Isolated DC-DC Converters; Manufacturer: RECOM Power; Order code: 919-RO-0505S; Value: 1W; Type: Isolated DC-DC Converters; Package: SIP4; Price: 4,84; Supplier: Mouser; PartNumber: RO_0505
footprint SIP4
pins: 1 Vin-, 2 Vin+, 3 Vout-, 4 Vout+

## SCW12A-05
designator U?
SCW12A-05, Isolated DC/DC Converters; Manufacturer: MEAN WELL; Value: 5V, 2.4 A; Order code: 709-SCW12A-05; Package: A-05IP-75; Price: 16,72; Supplier: Mouser; Type: Isolated DC/DC Converters; PartNumber: SCW12A-05
footprint 709-SCW12A-05
pins: 1 RC, 2 VIN-, 3 VIN-, 9 NC, 11 NC, 14 VOUT+, 16 VOUT-, 22 VIN+, 23 VIN+

## SI8610BC-B-IS
designator IC?
SI8610BC-B-IS, Digital Isolators; Manufacturer: Silicon Laboratories; Order code: 634-SI8610BC-B-IS; Value: 3.75 kVrms; Price: 1,62; Package: SOIC-8; Supplier: Mouser; Type: Digital Isolators; PartNumber: SI8610BC-B-IS
footprint SOIC8 (SOIC, 8-Leads, Body 4,91x3,90mm, Pitch 1,27mm, IPC Medium Density)
pins: 1 VDD1, 2 A1, 3 VDD1/NC, 4 GND1, 5 GND2, 6 B1, 7 GND2/NC, 8 VDD2

## SI8650BB
designator IC?
SI8650BB, Digital Isolators; Manufacturer: Silicon Laboratories; Order code: 634-SI8650BB-B-IU; Value: 2.5 kVrms; Price: 2,54; Package: QSOP-16; Supplier: Mouser; Type: Digital Isolators; PartNumber: SI8650BB
footprint SOIC127P1030X265-16N (SOIC, 16-Leads, Body 10,30x7,50mm, Pitch 1,27mm, IPC Medium Density)
pins: 1 VDD1, 2 A1, 3 A2, 4 A3, 5 A4, 6 A5, 7 EN1/NC, 8 GND1, 9 GND2, 10 EN2, 11 B5, 12 B4, 13 B3, 14 B2, 15 B1, 16 VDD2

## SN74LVC07ADR
designator DD?
6 channels, Buffers & Line Drivers; Manufacturer: Texas Instruments; Order code: 595-SN74LVC07ADR; Value: 6 channels; Supplier: Mouser; PartNumber: SN74LVC07ADR; Package: SOIC-14; Type: Buffers & Line Drivers; Price: 0,378
footprint SOIC-14N
pins: 1 1in, 2 1out, 3 2in, 4 2out, 5 3in, 6 3out, 7 GND, 8 4out, 9 4in, 10 5out, 11 5in, 12 6out, 13 6in, 14 Vcc

## SW_09.03290.01
designator SW?, comment 09.03290.01
12 VDC, Slide Switches; Manufacturer: EAO; Value: 12 VDC; Order code: 123-09.03290.01; datasheet: https://www1.elfa.se/data1/wwwroot/assets/datasheets/03536521.pdf; Price: 1,43; Supplier: Mouser; Package: 3x2,54; Type: Slide Switches; PartNumber: 09.03290.01
footprint 3_HOLES
pins: 1, 2, 3

## Switch_219-3MST
designator S?, comment 219-3MST
3line, DIP Switches/SIP Switches; Manufacturer: CTS Electronic Components; Order code: 774-2193MST; Price: 0,612; Package: SIP-6; Supplier: Mouser; Value: 3line; PartNumber: 219-3MST; Type: DIP Switches/SIP Switches
footprint 219-3MST
pins: 1, 2, 3, 4, 5, 6

## TestPoint
designator TP?, comment +12V
Testpoint; Value: +12V
footprint TestPoint
pins: 1

## THS4551IDGKR
designator U?
93dB to 110dB, 135 MHz, Differential Amplifiers; Manufacturer: Texas Instruments; Order code: 595-THS4551IDGKR; PartNumber: THS4551IDGKR; Type: Differential Amplifiers; Value: 93dB to 110dB, 135 MHz; Supplier: Mouser; Price: 2,92; Package: VSSOP-8
footprint DGK8
pins: 1 IN- (in), 2 VOCM (in), 3 VS+ (power), 4 OUT+ (out), 5 OUT- (out), 6 VS- (power), 7 PD_N (in), 8 IN+ (in)

## TLV1117LV33DCYR
designator U?
3.3V, 1A, LDO Voltage Regulators; Manufacturer: Texas Instruments; Order code: 595-TLV1117LV33DCYR; PIN_COUNT: 4; Type: LDO Voltage Regulators; PartNumber: TLV1117LV33DCYR; Value: 3.3V, 1A; Package: SOT223-4; Price: 0,423; Supplier: Mouser
footprint MP04A (SOT223-4)
pins: 1 GND (power), 2 OUT (out), 3 IN (in), 4 OUT (out)

## TMS320F28379DPTP
designator U?, comment TMS320F28379DPTPT
core C28x, 32-bit Microcontrollers - MCU; PartNumber: TMS320F28379DPTPS; Manufacturer: Texas Instruments; Order code: 595-TMS32028379DPTPT; Type: 32-bit Microcontrollers - MCU; Value: core C28x; Supplier: Mouser; Price: 20,56; Package: HLQFP-176
footprint PTP0176F_N
part A pins: 29 ADCINC4 (in), 30 ADCINC3 (in), 31 ADCINC2 (in), 32 VREFLOC (in), 33 VREFLOA (in), 35 VREFHIC (in), 37 VREFHIA (in), 38 ADCINA5 (in), 39 ADCINA4 (in), 40 ADCINA3 (in), 41 ADCINA2 (in), 42 ADCINA1 (in), 43 ADCINA0 (in), 44 ADCIN14 (in), 45 ADCIN15 (in), 46 ADCINB0 (in), 47 ADCINB1 (in), 48 ADCINB2 (in), 49 ADCINB3 (in), 50 VREFLOB (in), 51 VREFLOD (in), 53 VREFHIB (in), 55 VREFHID (in), 56 ADCIND0 (in), 57 ADCIND1 (in), 58 ADCIND2 (in), 59 ADCIND3 (in), 60 ADCIND4 (in)
part B pins: 1 GPIO10 (io), 2 GPIO11 (io), 4 GPIO12 (io), 5 GPIO13 (io), 6 GPIO14 (io), 7 GPIO15 (io), 8 GPIO16 (io), 9 GPIO17 (io), 10 GPIO18 (io), 12 GPIO19 (io), 13 GPIO20 (io), 14 GPIO21 (io), 18 GPIO8 (io), 19 GPIO9 (io), 22 GPIO22 (io), 23 GPIO23 (io), 24 GPIO24 (io), 25 GPIO25 (io), 27 GPIO26 (io), 28 GPIO27 (io), 63 GPIO30 (io), 64 GPIO28 (io), 65 GPIO29 (io), 66 GPIO31 (io), 67 GPIO32 (io), 69 GPIO33 (io), 70 GPIO34 (io), 71 GPIO35 (io), 83 GPIO36 (io), 84 GPIO37 (io), 85 GPIO38 (io), 86 GPIO39 (io), 87 GPIO40 (io), 89 GPIO41 (io), 90 GPIO48 (io), 93 GPIO49 (io), 113 GPIO44 (io), 115 GPIO45 (io), 128 GPIO46 (io), 129 GPIO47 (io), 130 GPIO42 (io), 131 GPIO43 (io), 160 GPIO0 (io), 161 GPIO1 (io), 162 GPIO2 (io), 163 GPIO3 (io), 164 GPIO4 (io), 165 GPIO5 (io), 166 GPIO6 (io), 167 GPIO7 (io)
part C pins: 17 GPIO99 (io), 94 GPIO50 (io), 95 GPIO51 (io), 96 GPIO52 (io), 97 GPIO53 (io), 98 GPIO54 (io), 100 GPIO55 (io), 101 GPIO56 (io), 102 GPIO57 (io), 103 GPIO58 (io), 104 GPIO59 (io), 105 GPIO60 (io), 107 GPIO61 (io), 108 GPIO62 (io), 109 GPIO63 (io), 110 GPIO64 (io), 111 GPIO65 (io), 112 GPIO66 (io), 118 GPIO133 (io), 132 GPIO67 (io), 133 GPIO68 (io), 134 GPIO69 (io), 135 GPIO70 (io), 136 GPIO71 (io), 139 GPIO72 (io), 140 GPIO73 (io), 141 GPIO74 (io), 142 GPIO75 (io), 143 GPIO76 (io), 144 GPIO77 (io), 145 GPIO78 (io), 146 GPIO79 (io), 148 GPIO80 (io), 149 GPIO81 (io), 150 GPIO82 (io), 151 GPIO83 (io), 154 GPIO84 (io), 155 GPIO85 (io), 156 GPIO86 (io), 157 GPIO87 (io), 170 GPIO88 (io), 171 GPIO89 (io), 172 GPIO90 (io), 173 GPIO91 (io), 174 GPIO92 (io), 175 GPIO93 (io), 176 GPIO94 (io)
part D pins: 73 FLT1 (io), 74 FLT2 (io), 77 TDI (in), 78 TDO (out), 79 TRST_N (in), 80 TMS (in), 81 TCK (in), 92 ERRORSTS (out), 119 VREGENZ (in), 121 X2 (out), 123 X1 (in), 124 XRS_N (io)
part E pins: 3 VDDIO (power), 11 VDDIO (power), 15 VDDIO (power), 16 VDD (power), 20 VDDIO (power), 21 VDD (power), 26 VDDIO (power), 34 VSSA (power), 36 VDDA (power), 52 VSSA (power), 54 VDDA (power), 61 VDD (power), 62 VDDIO (power), 68 VDDIO (power), 72 VDD3VFL (power), 75 VDDIO (power), 76 VDD (power), 82 VDDIO (power), 88 VDDIO (power), 91 VDDIO (power), 99 VDDIO (power), 106 VDDIO (power), 114 VDDIO (power), 116 VDDIO (power), 117 VDD (power), 120 VDDOSC (power), 122 VSSOSC (power), 125 VDDOSC (power), 126 VDD (power), 127 VDDIO (power), 137 VDD (power), 138 VDDIO (power), 147 VDDIO (power), 152 VDDIO (power), 153 VDD (power), 158 VDD (power), 159 VDDIO (power), 168 VDDIO (power), 169 VDD (power), 177 PWRPAD (power)

## TPS62080ADSGT
designator U?
1.2 A, Switching Voltage Regulators; Manufacturer: Texas Instruments; Value: 1.2 A; Order code: 595-TPS62080ADSGT; Package: WSON-8; Price: 1,53; Supplier: Mouser; Type: Switching Voltage Regulators; PartNumber: TPS62080ADSGT
footprint WSON-8 (2.1X2.1)
pins: 0 PAD, 1 EN, 2 GND, 3 MODE, 4 FB, 5 VOS, 6 PG, 7 SW, 8 VIN

## Var_B72207S0461K101
designator R?, comment value 615 VDC  (hidden comment: 460 VAC, 615 VDC)
460 VAC, 615 VDC, Varistors; Manufacturer: EPCOS; PartNumber: B72207S0461K101; Order code: 871-B72207S461K101; Type: Varistors; Supplier: Mouser; Price: 0,432; Package: 48X8X6 mm
footprint AXIAL-0.3 (Axial Device, Thru-Hole; 2 Leads; 0.3 in Pin Spacing)
pins: 1, 2

## Zener_MMSZ4678T1G
designator D?, comment MMSZ4678T1G  value 1.8 V, 500mW
1.8 V, 500mW, Zener Diodes; Manufacturer: ON Semiconductor; Order code: 863-MMSZ4678T1G; Supplier: Mouser; Price: 0,18; Package: SOD-123-2; Type: Zener Diodes; PartNumber: MMSZ4678T1G
footprint CAPM3216X18N
pins: 1, 2

## Zener_MMSZ5233BT1G
designator D?, comment MMSZ4678T1G  value 6V, 500mW
6V, 500mW, Zener Diodes; Manufacturer: ON Semiconductor; PartNumber: MMSZ5233BT1G; Order code: 863-MMSZ5233BT1G; Supplier: Mouser; Price: 0,18; Package: SOD-123-2; Type: Zener Diodes
footprint CAPM3216X18N
pins: 1, 2

## Zener_PDZ3.9B,115
designator D?, comment PDZ3.9B,115  value 3.9V, 0.4W
3.9V, 0.4W, Zener Diodes; Manufacturer: Nexperia; Order code: 771-PDZ39B115; Type: Zener Diodes; Supplier: Mouser; Package: SOD-323-2; Price: 0,171; PartNumber: PDZ3.9B,115
footprint SOD323F
pins: 1, 2